# Altium footprint library 12-PowerWQFN.PcbLib: 1 footprints
Each footprint in its own frame and in the unit in brackets; x right, y up, seen from the top. Pads: shape width x height; smd on the part's side, far side on the other; paste and mask are expansions set on the pad; w line width, h text height; cw(c..) or ccw(c..) is an arc to the next point about the centre after c.
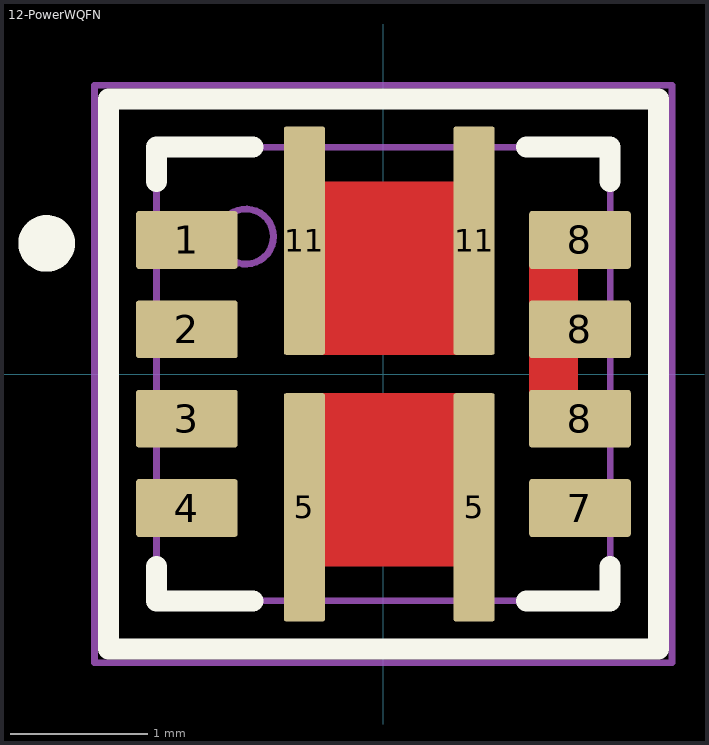
[diagram p0: the footprint, top view; thin cyan lines are the x and y axes]

## 12-PowerWQFN [mm] "MOSFET DUAL SWITCHING N CHANNEL"
pads (12):
  rrect10% 0.74x0.42 smd mask+0.065: 1(-1.43,0.975) 2(-1.43,0.325) 3(-1.43,-0.325) 4(-1.43,-0.975) 7(1.43,-0.975) 8(1.43,-0.325) 8(1.43,0.325) 8(1.43,0.975)
  rrect10% 0.3x1.66 smd mask+0.065: 5(-0.575,-0.97) 5(0.66,-0.97) 11(-0.575,0.97) 11(0.66,0.97)
Top Layer:
  region: 0.66,-1.4 0.66,-0.14 -0.575,-0.14 -0.575,-1.4
  region: 1.414,-0.325 1.414,0.975 1.06,0.975 1.06,-0.325
  region: -0.575,1.4 -0.575,0.14 0.66,0.14 0.66,1.4
Top Overlay:
  circle w0.254: c-2.45,0.95 r0.079
  lines w0.152: -1.65,-1.4 -1.65,-1.65 -0.95,-1.65 ; -1.65,1.4 -1.65,1.65 -0.95,1.65 ; 1.04,-1.65 1.65,-1.65 1.65,-1.4 ; 1.04,1.65 1.65,1.65 1.65,1.4 ; -2,-2 2,-2 2,2 -2,2 -2,-2
Mechanical 13:
  circle w0.05: c-1,1 r0.2
  lines w0.05: -1.65,-1.65 -1.65,1.65 1.65,1.65 1.65,-1.65 -1.65,-1.65
Mechanical 15:
  lines w0.05: -2.101,-2.101 -2.101,2.101 2.101,2.101 2.101,-2.101 -2.101,-2.101
3D body "NTTFD4D0N04HL.step": height 0.81, standoff 0.01, extent -1.65,-1.65 1.65,1.65